# Altium footprint library WCAP-CSGP.PcbLib: 19 footprints (part 1 of 2)
Each footprint in its own frame and in the unit in brackets; x right, y up, seen from the top. Pads: shape width x height; smd on the part's side, far side on the other; paste and mask are expansions set on the pad; w line width, h text height; cw(c..) or ccw(c..) is an arc to the next point about the centre after c.
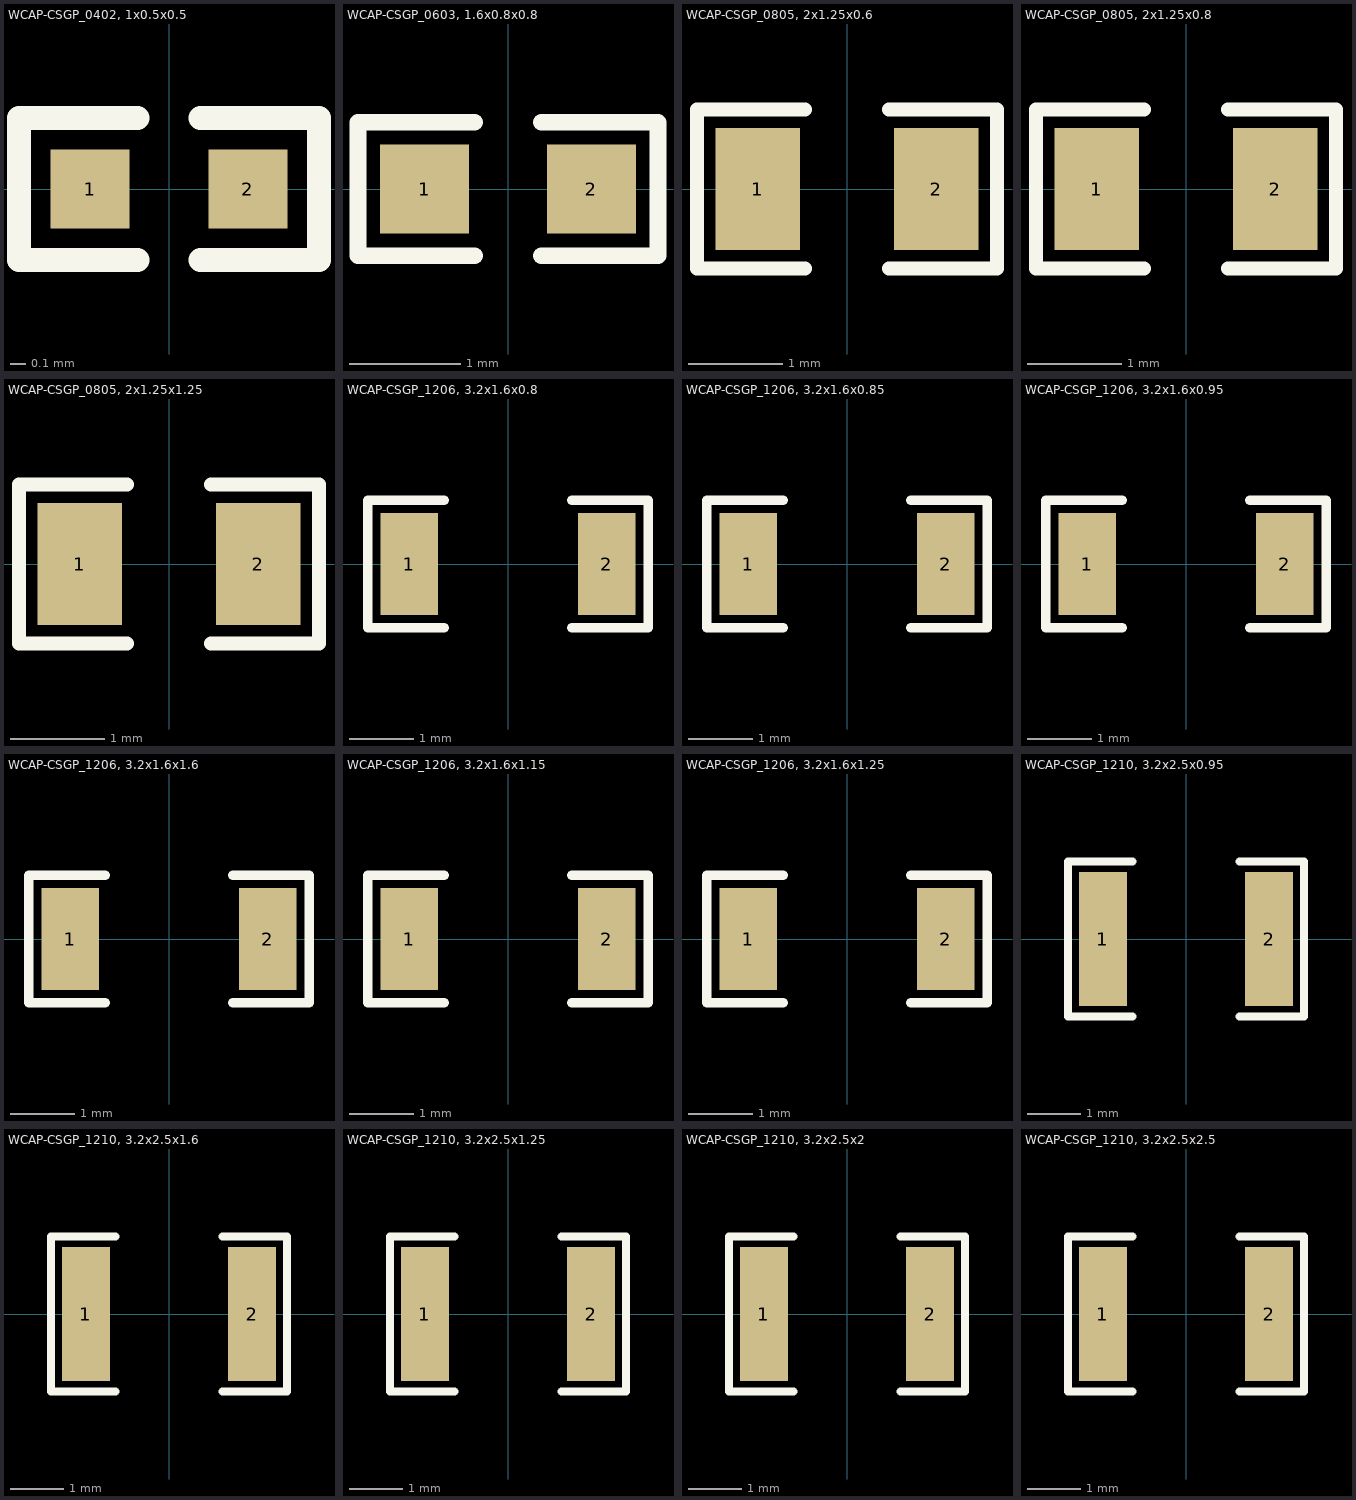
[diagram p0: the footprints below, top view; thin cyan lines are the x and y axes]

## WCAP-CSGP_0402, 1x0.5x0.5 [mm] "WCAP-CSGP Ceramic Capacitors, size 0402, body 1x0.5x0.5"
height 0.5
pads (2):
  rect 0.5x0.5 smd: 1(-0.5,0) 2(0.5,0)
Top Overlay:
  lines w0.15: -0.2,-0.45 -0.95,-0.45 -0.95,0.45 -0.2,0.45 ; 0.2,-0.45 0.95,-0.45 0.95,0.45 0.2,0.45
3D body: height 0.5, standoff 0, extent -0.5,-0.25 0.5,0.25

## WCAP-CSGP_0603, 1.6x0.8x0.8 [mm] "WCAP-CSGP Ceramic Capacitors, size 0603, body 1.6x0.8x0.8"
height 0.8
pads (2):
  rect 0.8x0.8 smd: 1(-0.75,0) 2(0.75,0)
Top Overlay:
  lines w0.15: -0.3,-0.6 -1.35,-0.6 -1.35,0.6 -0.3,0.6 ; 0.3,-0.6 1.35,-0.6 1.35,0.6 0.3,0.6
3D body: height 0.8, standoff 0, extent -0.8,-0.4 0.8,0.4

## WCAP-CSGP_0805, 2x1.25x0.6 [mm] "WCAP-CSGP Ceramic Capacitors, size 0805, body 2x1.25x0.6"
height 0.6
pads (2):
  rect 0.9x1.3 smd: 1(-0.95,0) 2(0.95,0)
Top Overlay:
  lines w0.15: -0.45,-0.85 -1.6,-0.85 -1.6,0.85 -0.45,0.85 ; 0.45,-0.85 1.6,-0.85 1.6,0.85 0.45,0.85
3D body: height 0.6, standoff 0, extent -0.75,-0.625 0.75,0.625

## WCAP-CSGP_0805, 2x1.25x0.8 [mm] "WCAP-CSGP Ceramic Capacitors, size 0805, body 2x1.25x0.8"
height 0.8
pads (2):
  rect 0.9x1.3 smd: 1(-0.95,0) 2(0.95,0)
Top Overlay:
  lines w0.15: -0.45,-0.85 -1.6,-0.85 -1.6,0.85 -0.45,0.85 ; 0.45,-0.85 1.6,-0.85 1.6,0.85 0.45,0.85
3D body: height 0.8, standoff 0, extent -1,-0.625 1,0.625

## WCAP-CSGP_0805, 2x1.25x1.25 [mm] "WCAP-CSGP Ceramic Capacitors, size 0805, body 2x1.25x1.25"
height 1.25
pads (2):
  rect 0.9x1.3 smd: 1(-0.95,0) 2(0.95,0)
Top Overlay:
  lines w0.15: -0.45,-0.85 -1.6,-0.85 -1.6,0.85 -0.45,0.85 ; 0.45,-0.85 1.6,-0.85 1.6,0.85 0.45,0.85
3D body: height 1.22, standoff -0.03, extent -1,-0.625 1,0.625

## WCAP-CSGP_1206, 3.2x1.6x0.8 [mm] "WCAP-CSGP Ceramic Capacitors, size 1206, body 3.2x1.6x0.8"
height 0.8
pads (2):
  rect 0.9x1.6 smd: 1(-1.55,0) 2(1.55,0)
Top Overlay:
  lines w0.15: -1,-1 -2.2,-1 -2.2,1 -1,1 ; 1,-1 2.2,-1 2.2,1 1,1
3D body: height 0.8, standoff 0, extent -1.6,-0.8 1.6,0.8

## WCAP-CSGP_1206, 3.2x1.6x0.85 [mm] "WCAP-CSGP Ceramic Capacitors, size 1206, body 3.2x1.6x0.85"
height 0.85
pads (2):
  rect 0.9x1.6 smd: 1(-1.55,0) 2(1.55,0)
Top Overlay:
  lines w0.15: -1,-1 -2.2,-1 -2.2,1 -1,1 ; 1,-1 2.2,-1 2.2,1 1,1
3D body: height 0.82, standoff -0.03, extent -1.6,-0.8 1.6,0.8

## WCAP-CSGP_1206, 3.2x1.6x0.95 [mm] "WCAP-CSGP Ceramic Capacitors, size 1206, body 3.2x1.6x0.95"
height 0.95
pads (2):
  rect 0.9x1.6 smd: 1(-1.55,0) 2(1.55,0)
Top Overlay:
  lines w0.15: -1,-1 -2.2,-1 -2.2,1 -1,1 ; 1,-1 2.2,-1 2.2,1 1,1
3D body: height 0.92, standoff -0.03, extent -1.6,-0.8 1.6,0.8

## WCAP-CSGP_1206, 3.2x1.6x1.6 [mm] "WCAP-CSGP Ceramic Capacitors, size 1206, body 3.2x1.6x1.6"
height 1.6
pads (2):
  rect 0.9x1.6 smd: 1(-1.55,0) 2(1.55,0)
Top Overlay:
  lines w0.15: -1,-1 -2.2,-1 -2.2,1 -1,1 ; 1,-1 2.2,-1 2.2,1 1,1
3D body: height 1.6, standoff 0, extent -1.6,-0.8 1.6,0.8

## WCAP-CSGP_1206, 3.2x1.6x1.15 [mm] "WCAP-CSGP Ceramic Capacitors, size 1206, body 3.2x1.6x1.15"
height 1.15
pads (2):
  rect 0.9x1.6 smd: 1(-1.55,0) 2(1.55,0)
Top Overlay:
  lines w0.15: -1,-1 -2.2,-1 -2.2,1 -1,1 ; 1,-1 2.2,-1 2.2,1 1,1
3D body: height 1.24, standoff -0.01, extent -1.6,-0.8 1.6,0.8

## WCAP-CSGP_1206, 3.2x1.6x1.25 [mm] "WCAP-CSGP Ceramic Capacitors, size 1206, body 3.2x1.6x1.25"
height 1.25
pads (2):
  rect 0.9x1.6 smd: 1(-1.55,0) 2(1.55,0)
Top Overlay:
  lines w0.15: -1,-1 -2.2,-1 -2.2,1 -1,1 ; 1,-1 2.2,-1 2.2,1 1,1
3D body: height 1.27, standoff 0.02, extent -1.6,-0.8 1.6,0.8

## WCAP-CSGP_1210, 3.2x2.5x0.95 [mm] "WCAP-CSGP Ceramic Capacitors, size 1210, body 3.2x2.5x0.95"
height 0.95
pads (2):
  rect 0.9x2.5 smd: 1(-1.55,0) 2(1.55,0)
Top Overlay:
  lines w0.15: -1,-1.45 -2.2,-1.45 -2.2,1.45 -1,1.45 ; 1,-1.45 2.2,-1.45 2.2,1.45 1,1.45
3D body: height 0.97, standoff 0.02, extent -1.55,-1.25 1.65,1.25

## WCAP-CSGP_1210, 3.2x2.5x1.6 [mm] "WCAP-CSGP Ceramic Capacitors, size 1210, body 3.2x2.5x1.6"
height 1.6
pads (2):
  rect 0.9x2.5 smd: 1(-1.55,0) 2(1.55,0)
Top Overlay:
  lines w0.15: -1,-1.45 -2.2,-1.45 -2.2,1.45 -1,1.45 ; 1,-1.45 2.2,-1.45 2.2,1.45 1,1.45
3D body: height 2, standoff 0, extent -1.595,-1.25 1.605,1.25

## WCAP-CSGP_1210, 3.2x2.5x1.25 [mm] "WCAP-CSGP Ceramic Capacitors, size 1210, body 3.2x2.5x1.25"
height 1.25
pads (2):
  rect 0.9x2.5 smd: 1(-1.55,0) 2(1.55,0)
Top Overlay:
  lines w0.15: -1,-1.45 -2.2,-1.45 -2.2,1.45 -1,1.45 ; 1,-1.45 2.2,-1.45 2.2,1.45 1,1.45
3D body: height 2, standoff 0, extent -1.55,-1.25 1.65,1.25

## WCAP-CSGP_1210, 3.2x2.5x2 [mm] "WCAP-CSGP Ceramic Capacitors, size 1210, body 3.2x2.5x2"
height 2
pads (2):
  rect 0.9x2.5 smd: 1(-1.55,0) 2(1.55,0)
Top Overlay:
  lines w0.15: -1,-1.45 -2.2,-1.45 -2.2,1.45 -1,1.45 ; 1,-1.45 2.2,-1.45 2.2,1.45 1,1.45
3D body: height 2, standoff 0, extent -1.6,-1.25 1.6,1.25

## WCAP-CSGP_1210, 3.2x2.5x2.5 [mm] "WCAP-CSGP Ceramic Capacitors, size 1210, body 3.2x2.5x2.5"
height 2.5
pads (2):
  rect 0.9x2.5 smd: 1(-1.55,0) 2(1.55,0)
Top Overlay:
  lines w0.15: -1,-1.45 -2.2,-1.45 -2.2,1.45 -1,1.45 ; 1,-1.45 2.2,-1.45 2.2,1.45 1,1.45
3D body: height 2.5, standoff 0, extent -1.6,-1.25 1.6,1.25